# Altium footprint library DIP-IC  0607.PcbLib: 26 footprints (part 1 of 2)
Each footprint in its own frame and in the unit in brackets; x right, y up, seen from the top. Pads: shape width x height; smd on the part's side, far side on the other; paste and mask are expansions set on the pad; w line width, h text height; cw(c..) or ccw(c..) is an arc to the next point about the centre after c.
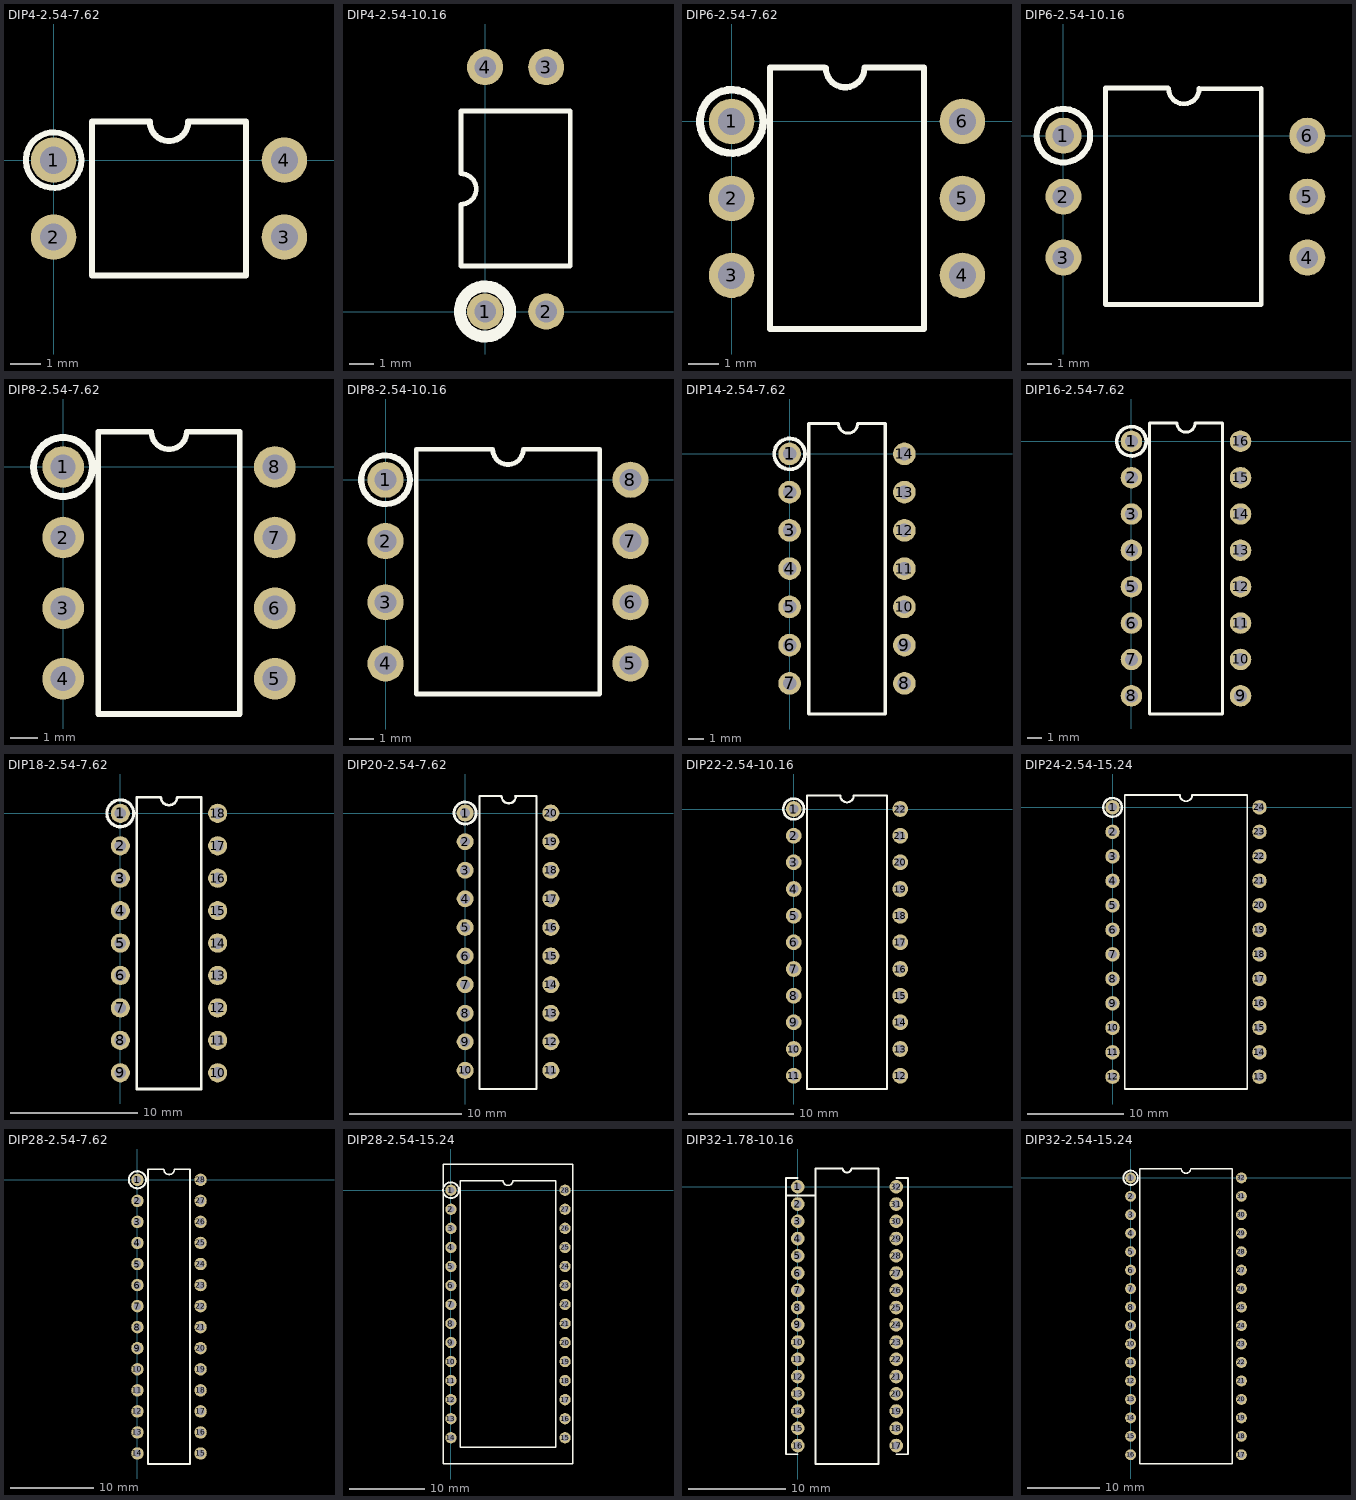
[diagram p0: the footprints below, top view; thin cyan lines are the x and y axes]

## DIP4-2.54-7.62 [mm]
pads (4):
  round 1.5 hole 0.9: 1(0,0) 2(0,-2.54) 3(7.62,-2.54) 4(7.62,0)
TopOverlay:
  circle w0.2: c0,0 r0.916
  lines w0.2: 1.27,-3.81 6.35,-3.81 6.35,1.27 4.445,1.27 cw(c3.81,1.27) 3.175,1.27 1.27,1.27 1.27,-3.81
BottomOverlay:
  lines w0.99: -1.143,-1.27 1.143,-1.27 ; 6.477,-1.27 8.763,-1.27

## DIP4-2.54-10.16 [mm]
pads (4):
  round 1.5 hole 0.9: 1(0,0) 2(2.54,0) 3(2.54,10.16) 4(0,10.16)
TopOverlay:
  circle w0.5: c0,0 r1.041
  lines w0.2: -1,1.896 3.54,1.896 3.54,8.341 -1,8.341 -1,5.729 cw(c-1,5.094) -1,4.459 -1,1.896
BottomOverlay:
  lines w0.8: 1.27,-1.143 1.27,1.143 ; 1.27,9.042 1.27,11.328

## DIP6-2.54-7.62 [mm]
pads (6):
  round 1.5 hole 0.9: 1(0,0) 2(0,-2.54) 3(0,-5.08) 4(7.62,-5.08) 5(7.62,-2.54) 6(7.62,0)
TopOverlay:
  circle w0.254: c0,0 r1.046
  lines w0.2: 3.073,1.778 1.27,1.778 1.27,-6.858 6.35,-6.858 6.35,1.778 4.394,1.778 ; 3.115,1.762 ccw(c3.75,1.762) 4.385,1.762
BottomOverlay:
  lines w0.99: -1.143,-3.81 1.143,-3.81 ; -1.143,-1.27 1.143,-1.27 ; 6.477,-3.81 8.763,-3.81 ; 6.477,-1.27 8.763,-1.27

## DIP6-2.54-10.16 [mm]
pads (6):
  round 1.5 hole 0.9: 1(0,0) 2(0,-2.54) 3(0,-5.08) 4(10.16,-5.08) 5(10.16,-2.54) 6(10.16,0)
TopOverlay:
  circle w0.254: c0,0 r1.114
  lines w0.2: 4.369,1.981 1.753,1.981 1.746,-7.04 8.238,-7.04 8.238,1.96 5.639,1.956 ; 4.382,1.96 ccw(c5.017,1.96) 5.652,1.96
BottomOverlay:
  lines w0.8: -1.143,-3.81 1.143,-3.81 ; -1.143,-1.27 1.143,-1.27 ; 9.017,-1.27 11.303,-1.27 ; 9.068,-3.835 11.354,-3.835

## DIP8-2.54-7.62 [mm]
pads (8):
  round 1.5 hole 0.9: 1(0,0) 2(0,-2.54) 3(0,-5.08) 4(0,-7.62) 5(7.62,-7.62) 6(7.62,-5.08) 7(7.62,-2.54) 8(7.62,0)
TopOverlay:
  circle w0.254: c0,0 r1.06
  lines w0.2: 1.27,-8.89 1.27,1.27 3.175,1.27 ccw(c3.81,1.27) 4.445,1.27 6.35,1.27 6.35,-8.89 1.27,-8.89
BottomOverlay:
  lines w0.99: -1.143,-6.35 1.143,-6.35 ; -1.143,-3.81 1.143,-3.81 ; -1.143,-1.27 1.143,-1.27 ; 6.477,-6.35 8.763,-6.35 ; 6.477,-3.81 8.763,-3.81 ; 6.477,-1.27 8.763,-1.27

## DIP8-2.54-10.16 [mm]
height 4.75
pads (8):
  round 1.5 hole 0.9: 1(0,0) 2(0,-2.54) 3(0,-5.08) 4(0,-7.62) 5(10.16,-7.62) 6(10.16,-5.08) 7(10.16,-2.54) 8(10.16,0)
TopOverlay:
  circle w0.254: c0,0 r1.012
  lines w0.2: 1.27,-8.89 1.27,1.27 4.445,1.27 ccw(c5.08,1.27) 5.715,1.27 8.89,1.27 8.89,-8.89 1.27,-8.89
BottomOverlay:
  lines w0.99: -1.143,-6.35 1.143,-6.35 ; -1.143,-3.81 1.143,-3.81 ; -1.143,-1.27 1.143,-1.27 ; 9.017,-6.35 11.303,-6.35 ; 9.017,-3.81 11.303,-3.81 ; 9.017,-1.27 11.303,-1.27

## DIP14-2.54-7.62 [mm]
pads (14):
  round 1.5 hole 0.9: 1(0,0) 2(0,-2.54) 3(0,-5.08) 4(0,-7.62) 5(0,-10.16) 6(0,-12.7) 7(0,-15.24) 8(7.62,-15.24) 9(7.62,-12.7) 10(7.62,-10.16) 11(7.62,-7.62) 12(7.62,-5.08) 13(7.62,-2.54) 14(7.62,0)
TopOverlay:
  circle w0.254: c0,0 r1.022
  lines w0.2: 3.175,2.032 1.27,2.032 1.27,-17.272 6.35,-17.272 6.35,2.032 4.572,2.032 ; 3.242,2.016 ccw(c3.877,2.016) 4.512,2.016
BottomOverlay:
  lines w0.99: -1.143,-13.97 1.143,-13.97 ; -1.143,-11.43 1.143,-11.43 ; -1.143,-8.89 1.143,-8.89 ; -1.143,-6.35 1.143,-6.35 ; -1.143,-3.81 1.143,-3.81 ; -1.143,-1.27 1.143,-1.27 ; 6.477,-13.97 8.763,-13.97 ; 6.477,-11.43 8.763,-11.43 ; 6.477,-8.89 8.763,-8.89 ; 6.477,-6.35 8.763,-6.35 ; 6.477,-3.81 8.763,-3.81 ; 6.477,-1.27 8.763,-1.27

## DIP16-2.54-7.62 [mm]
pads (16):
  round 1.5 hole 0.9: 1(0,0) 2(0,-2.54) 3(0,-5.08) 4(0,-7.62) 5(0,-10.16) 6(0,-12.7) 7(0,-15.24) 8(0,-17.78) 9(7.62,-17.78) 10(7.62,-15.24) 11(7.62,-12.7) 12(7.62,-10.16) 13(7.62,-7.62) 14(7.62,-5.08) 15(7.62,-2.54) 16(7.62,0)
TopOverlay:
  circle w0.254: c0,0 r1.028
  lines w0.2: 1.27,-19.05 6.35,-19.05 6.35,1.27 4.445,1.27 cw(c3.81,1.27) 3.175,1.27 1.27,1.27 1.27,-19.05
BottomOverlay:
  lines w0.99: -1.143,-16.51 1.143,-16.51 ; -1.143,-13.97 1.143,-13.97 ; -1.143,-11.43 1.143,-11.43 ; -1.143,-8.89 1.143,-8.89 ; -1.143,-6.35 1.143,-6.35 ; -1.143,-3.81 1.143,-3.81 ; -1.143,-1.27 1.143,-1.27 ; 6.477,-16.51 8.763,-16.51 ; 6.477,-13.97 8.763,-13.97 ; 6.477,-11.43 8.763,-11.43 ; 6.477,-8.89 8.763,-8.89 ; 6.477,-6.35 8.763,-6.35 ; 6.477,-3.81 8.763,-3.81 ; 6.477,-1.27 8.763,-1.27

## DIP18-2.54-7.62 [mm]
pads (18):
  round 1.5 hole 0.9: 1(0,0) 2(0,-2.54) 3(0,-5.08) 4(0,-7.62) 5(0,-10.16) 6(0,-12.7) 7(0,-15.24) 8(0,-17.78) 9(0,-20.32) 10(7.62,-20.32) 11(7.62,-17.78) 12(7.62,-15.24) 13(7.62,-12.7) 14(7.62,-10.16) 15(7.62,-7.62) 16(7.62,-5.08) 17(7.62,-2.54) 18(7.62,0)
TopOverlay:
  circle w0.254: c0,0 r1.052
  lines w0.2: 1.27,-21.59 6.35,-21.59 6.35,1.27 4.445,1.27 cw(c3.81,1.27) 3.175,1.27 1.27,1.27 1.27,-21.59
BottomOverlay:
  lines w0.99: -1.143,-19.05 1.143,-19.05 ; -1.143,-16.51 1.143,-16.51 ; -1.143,-13.97 1.143,-13.97 ; -1.143,-11.43 1.143,-11.43 ; -1.143,-8.89 1.143,-8.89 ; -1.143,-6.35 1.143,-6.35 ; -1.143,-3.81 1.143,-3.81 ; -1.143,-1.27 1.143,-1.27 ; 6.477,-19.05 8.763,-19.05 ; 6.477,-16.51 8.763,-16.51 ; 6.477,-13.97 8.763,-13.97 ; 6.477,-11.43 8.763,-11.43 ; 6.477,-8.89 8.763,-8.89 ; 6.477,-6.35 8.763,-6.35 ; 6.477,-3.81 8.763,-3.81 ; 6.477,-1.27 8.763,-1.27

## DIP20-2.54-7.62 [mm]
pads (20):
  round 1.5 hole 0.9: 1(0,0) 2(0,-2.54) 3(0,-5.08) 4(0,-7.62) 5(0,-10.16) 6(0,-12.7) 7(0,-15.24) 8(0,-17.78) 9(0,-20.32) 10(0,-22.86) 11(7.62,-22.86) 12(7.62,-20.32) 13(7.62,-17.78) 14(7.62,-15.24) 15(7.62,-12.7) 16(7.62,-10.16) 17(7.62,-7.62) 18(7.62,-5.08) 19(7.62,-2.54) 20(7.62,0)
TopOverlay:
  circle w0.254: c0,0 r0.98
  lines w0.2: 3.175,1.524 1.27,1.524 1.27,-24.511 6.35,-24.511 6.35,1.524 4.445,1.524 ; 3.242,1.5 ccw(c3.877,1.5) 4.512,1.5
BottomOverlay:
  lines w0.99: -1.143,-21.59 1.143,-21.59 ; -1.143,-19.05 1.143,-19.05 ; -1.143,-16.51 1.143,-16.51 ; -1.143,-13.97 1.143,-13.97 ; -1.143,-11.43 1.143,-11.43 ; -1.143,-8.89 1.143,-8.89 ; -1.143,-6.35 1.143,-6.35 ; -1.143,-3.81 1.143,-3.81 ; -1.143,-1.27 1.143,-1.27 ; 6.477,-21.59 8.763,-21.59 ; 6.477,-19.05 8.763,-19.05 ; 6.477,-16.51 8.763,-16.51 ; 6.477,-13.97 8.763,-13.97 ; 6.477,-11.43 8.763,-11.43 ; 6.477,-8.89 8.763,-8.89 ; 6.477,-6.35 8.763,-6.35 ; 6.477,-3.81 8.763,-3.81 ; 6.477,-1.27 8.763,-1.27

## DIP22-2.54-10.16 [mm]
pads (22):
  round 1.5 hole 0.9: 1(0,0) 2(0,-2.54) 3(0,-5.08) 4(0,-7.62) 5(0,-10.16) 6(0,-12.7) 7(0,-15.24) 8(0,-17.78) 9(0,-20.32) 10(0,-22.86) 11(0,-25.4) 12(10.16,-25.4) 13(10.16,-22.86) 14(10.16,-20.32) 15(10.16,-17.78) 16(10.16,-15.24) 17(10.16,-12.7) 18(10.16,-10.16) 19(10.16,-7.62) 20(10.16,-5.08) 21(10.16,-2.54) 22(10.16,0)
TopOverlay:
  circle w0.254: c0,0 r0.989
  lines w0.2: 1.27,-26.67 8.89,-26.67 8.89,1.27 5.715,1.27 cw(c5.08,1.27) 4.445,1.27 1.27,1.27 1.27,-26.67
BottomOverlay:
  lines w0.99: -1.143,-24.13 1.143,-24.13 ; -1.143,-21.59 1.143,-21.59 ; -1.143,-19.05 1.143,-19.05 ; -1.143,-16.51 1.143,-16.51 ; -1.143,-13.97 1.143,-13.97 ; -1.143,-11.43 1.143,-11.43 ; -1.143,-8.89 1.143,-8.89 ; -1.143,-6.35 1.143,-6.35 ; -1.143,-3.81 1.143,-3.81 ; -1.143,-1.27 1.143,-1.27 ; 9.017,-24.13 11.303,-24.13 ; 9.017,-21.59 11.303,-21.59 ; 9.017,-19.05 11.303,-19.05 ; 9.017,-16.51 11.303,-16.51 ; 9.017,-13.97 11.303,-13.97 ; 9.017,-11.43 11.303,-11.43 ; 9.017,-8.89 11.303,-8.89 ; 9.017,-6.35 11.303,-6.35 ; 9.017,-3.81 11.303,-3.81 ; 9.017,-1.27 11.303,-1.27

## DIP24-2.54-15.24 [mm]
pads (24):
  round 1.5 hole 0.9: 1(0,0) 2(0,-2.54) 3(0,-5.08) 4(0,-7.62) 5(0,-10.16) 6(0,-12.7) 7(0,-15.24) 8(0,-17.78) 9(0,-20.32) 10(0,-22.86) 11(0,-25.4) 12(0,-27.94) 13(15.24,-27.94) 14(15.24,-25.4) 15(15.24,-22.86) 16(15.24,-20.32) 17(15.24,-17.78) 18(15.24,-15.24) 19(15.24,-12.7) 20(15.24,-10.16) 21(15.24,-7.62) 22(15.24,-5.08) 23(15.24,-2.54) 24(15.24,0)
TopOverlay:
  circle w0.254: c0,0 r0.971
  lines w0.2: 1.27,-29.21 1.27,1.27 6.985,1.27 ccw(c7.62,1.27) 8.255,1.27 13.97,1.27 13.97,-29.21 1.27,-29.21
BottomOverlay:
  lines w0.99: -1.143,-26.67 1.143,-26.67 ; -1.143,-24.13 1.143,-24.13 ; -1.143,-21.59 1.143,-21.59 ; -1.143,-19.05 1.143,-19.05 ; -1.143,-16.51 1.143,-16.51 ; -1.143,-13.97 1.143,-13.97 ; -1.143,-11.43 1.143,-11.43 ; -1.143,-8.89 1.143,-8.89 ; -1.143,-6.35 1.143,-6.35 ; -1.143,-3.81 1.143,-3.81 ; -1.143,-1.27 1.143,-1.27 ; 14.097,-26.67 16.383,-26.67 ; 14.097,-24.13 16.383,-24.13 ; 14.097,-21.59 16.383,-21.59 ; 14.097,-19.05 16.383,-19.05 ; 14.097,-16.51 16.383,-16.51 ; 14.097,-13.97 16.383,-13.97 ; 14.097,-11.43 16.383,-11.43 ; 14.097,-8.89 16.383,-8.89 ; 14.097,-6.35 16.383,-6.35 ; 14.097,-3.81 16.383,-3.81 ; 14.097,-1.27 16.383,-1.27

## DIP28-2.54-7.62 [mm]
pads (28):
  round 1.5 hole 0.9: 1(0,0) 2(0,-2.54) 3(0,-5.08) 4(0,-7.62) 5(0,-10.16) 6(0,-12.7) 7(0,-15.24) 8(0,-17.78) 9(0,-20.32) 10(0,-22.86) 11(0,-25.4) 12(0,-27.94) 13(0,-30.48) 14(0,-33.02) 15(7.62,-33.02) 16(7.62,-30.48) 17(7.62,-27.94) 18(7.62,-25.4) 19(7.62,-22.86) 20(7.62,-20.32) 21(7.62,-17.78) 22(7.62,-15.24) 23(7.62,-12.7) 24(7.62,-10.16) 25(7.62,-7.62) 26(7.62,-5.08) 27(7.62,-2.54) 28(7.62,0)
TopOverlay:
  circle w0.254: c0,0 r1.031
  lines w0.2: 3.175,1.27 1.27,1.27 1.27,-34.29 6.35,-34.29 6.35,1.27 4.445,1.27 ; 3.191,1.27 ccw(c3.826,1.27) 4.461,1.27
BottomOverlay:
  lines w0.99: -1.143,-31.75 1.143,-31.75 ; -1.143,-29.21 1.143,-29.21 ; -1.143,-26.67 1.143,-26.67 ; -1.143,-24.13 1.143,-24.13 ; -1.143,-21.59 1.143,-21.59 ; -1.143,-19.05 1.143,-19.05 ; -1.143,-16.51 1.143,-16.51 ; -1.143,-13.97 1.143,-13.97 ; -1.143,-11.43 1.143,-11.43 ; -1.143,-8.89 1.143,-8.89 ; -1.143,-6.35 1.143,-6.35 ; -1.143,-3.81 1.143,-3.81 ; -1.143,-1.27 1.143,-1.27 ; 6.477,-31.75 8.763,-31.75 ; 6.477,-29.21 8.763,-29.21 ; 6.477,-26.67 8.763,-26.67 ; 6.477,-24.13 8.763,-24.13 ; 6.477,-21.59 8.763,-21.59 ; 6.477,-19.05 8.763,-19.05 ; 6.477,-16.51 8.763,-16.51 ; 6.477,-13.97 8.763,-13.97 ; 6.477,-11.43 8.763,-11.43 ; 6.477,-8.89 8.763,-8.89 ; 6.477,-6.35 8.763,-6.35 ; 6.477,-3.81 8.763,-3.81 ; 6.477,-1.27 8.763,-1.27

## DIP28-2.54-15.24 [mm]
pads (28):
  round 1.5 hole 0.9: 1(0,0) 2(0,-2.54) 3(0,-5.08) 4(0,-7.62) 5(0,-10.16) 6(0,-12.7) 7(0,-15.24) 8(0,-17.78) 9(0,-20.32) 10(0,-22.86) 11(0,-25.4) 12(0,-27.94) 13(0,-30.48) 14(0,-33.02) 15(15.24,-33.02) 16(15.24,-30.48) 17(15.24,-27.94) 18(15.24,-25.4) 19(15.24,-22.86) 20(15.24,-20.32) 21(15.24,-17.78) 22(15.24,-15.24) 23(15.24,-12.7) 24(15.24,-10.16) 25(15.24,-7.62) 26(15.24,-5.08) 27(15.24,-2.54) 28(15.24,0)
TopOverlay:
  circle w0.254: c0,0 r1.052
  lines w0.2: -1.01,-36.52 16.244,-36.52 16.244,3.494 ; -1,-36.51 -1,-34.27 -1.004,3.5 16.25,3.5 ; 1.27,-34.29 1.27,1.27 6.985,1.27 ccw(c7.62,1.27) 8.255,1.27 13.97,1.27 13.97,-34.29 1.27,-34.29
BottomOverlay:
  lines w0.99: -1.143,-31.75 1.143,-31.75 ; -1.143,-29.21 1.143,-29.21 ; -1.143,-26.67 1.143,-26.67 ; -1.143,-24.13 1.143,-24.13 ; -1.143,-21.59 1.143,-21.59 ; -1.143,-19.05 1.143,-19.05 ; -1.143,-16.51 1.143,-16.51 ; -1.143,-13.97 1.143,-13.97 ; -1.143,-11.43 1.143,-11.43 ; -1.143,-8.89 1.143,-8.89 ; -1.143,-6.35 1.143,-6.35 ; -1.143,-3.81 1.143,-3.81 ; -1.143,-1.27 1.143,-1.27 ; 14.097,-31.75 16.383,-31.75 ; 14.097,-29.21 16.383,-29.21 ; 14.097,-26.67 16.383,-26.67 ; 14.097,-24.13 16.383,-24.13 ; 14.097,-21.59 16.383,-21.59 ; 14.097,-19.05 16.383,-19.05 ; 14.097,-16.51 16.383,-16.51 ; 14.097,-13.97 16.383,-13.97 ; 14.097,-11.43 16.383,-11.43 ; 14.097,-8.89 16.383,-8.89 ; 14.097,-6.35 16.383,-6.35 ; 14.097,-3.81 16.383,-3.81 ; 14.097,-1.27 16.383,-1.27

## DIP32-1.78-10.16 [mm]
pads (32):
  round 1.4 hole 0.8: 1(0,0) 2(0,-1.78) 3(0,-3.56) 4(0,-5.34) 5(0,-7.12) 6(0,-8.9) 7(0,-10.68) 8(0,-12.46) 9(0,-14.24) 10(0,-16.02) 11(0,-17.8) 12(0,-19.58) 13(0,-21.36) 14(0,-23.14) 15(0,-24.92) 16(0,-26.7) 17(10.16,-26.7) 18(10.16,-24.92) 19(10.16,-23.14) 20(10.16,-21.36) 21(10.16,-19.58) 22(10.16,-17.8) 23(10.16,-16.02) 24(10.16,-14.24) 25(10.16,-12.46) 26(10.16,-10.68) 27(10.16,-8.9) 28(10.16,-7.12) 29(10.16,-5.34) 30(10.16,-3.56) 31(10.16,-1.78) 32(10.16,0)
TopOverlay:
  lines w0.2: -1.22,-0.889 1.835,-0.889 ; 0,-27.6 -1.22,-27.6 -1.22,0.9 0,0.9 ; 10.16,-27.6 11.38,-27.6 11.38,0.9 10.16,0.9 ; 1.835,-28.606 1.835,1.906 4.635,1.906 ccw(c5.08,1.906) 5.525,1.906 8.325,1.906 8.325,-28.606 1.835,-28.606
BottomOverlay:
  lines w0.33: -1.041,-25.809 1.067,-25.809 ; -1.041,-24.029 1.067,-24.029 ; -1.041,-22.249 1.067,-22.249 ; -1.041,-20.469 1.067,-20.469 ; -1.041,-18.689 1.067,-18.689 ; -1.041,-16.909 1.067,-16.909 ; -1.041,-15.129 1.067,-15.129 ; -1.041,-13.349 1.067,-13.349 ; -1.041,-11.569 1.067,-11.569 ; -1.041,-9.789 1.067,-9.789 ; -1.041,-8.009 1.067,-8.009 ; -1.041,-6.229 1.067,-6.229 ; -1.041,-4.449 1.067,-4.449 ; -1.041,-2.669 1.067,-2.669 ; -1.041,-0.889 1.067,-0.889 ; 9.119,-25.809 11.227,-25.809 ; 9.119,-24.029 11.227,-24.029 ; 9.119,-22.249 11.227,-22.249 ; 9.119,-20.469 11.227,-20.469 ; 9.119,-18.689 11.227,-18.689 ; 9.119,-16.909 11.227,-16.909 ; 9.119,-15.129 11.227,-15.129 ; 9.119,-13.349 11.227,-13.349 ; 9.119,-11.569 11.227,-11.569 ; 9.119,-9.789 11.227,-9.789 ; 9.119,-8.009 11.227,-8.009 ; 9.119,-6.229 11.227,-6.229 ; 9.119,-4.449 11.227,-4.449 ; 9.119,-2.669 11.227,-2.669 ; 9.119,-0.889 11.227,-0.889

## DIP32-2.54-15.24 [mm]
pads (32):
  round 1.5 hole 0.9: 1(0,0) 2(0,-2.54) 3(0,-5.08) 4(0,-7.62) 5(0,-10.16) 6(0,-12.7) 7(0,-15.24) 8(0,-17.78) 9(0,-20.32) 10(0,-22.86) 11(0,-25.4) 12(0,-27.94) 13(0,-30.48) 14(0,-33.02) 15(0,-35.56) 16(0,-38.1) 17(15.24,-38.1) 18(15.24,-35.56) 19(15.24,-33.02) 20(15.24,-30.48) 21(15.24,-27.94) 22(15.24,-25.4) 23(15.24,-22.86) 24(15.24,-20.32) 25(15.24,-17.78) 26(15.24,-15.24) 27(15.24,-12.7) 28(15.24,-10.16) 29(15.24,-7.62) 30(15.24,-5.08) 31(15.24,-2.54) 32(15.24,0)
TopOverlay:
  circle w0.254: c0,0 r0.996
  lines w0.2: 1.27,-39.37 13.97,-39.37 13.97,1.27 8.255,1.27 cw(c7.62,1.27) 6.985,1.27 1.27,1.27 1.27,-39.37
BottomOverlay:
  lines w0.99: -1.143,-36.83 1.143,-36.83 ; -1.143,-34.29 1.143,-34.29 ; -1.143,-31.75 1.143,-31.75 ; -1.143,-29.21 1.143,-29.21 ; -1.143,-26.67 1.143,-26.67 ; -1.143,-24.13 1.143,-24.13 ; -1.143,-21.59 1.143,-21.59 ; -1.143,-19.05 1.143,-19.05 ; -1.143,-16.51 1.143,-16.51 ; -1.143,-13.97 1.143,-13.97 ; -1.143,-11.43 1.143,-11.43 ; -1.143,-8.89 1.143,-8.89 ; -1.143,-6.35 1.143,-6.35 ; -1.143,-3.81 1.143,-3.81 ; -1.143,-1.27 1.143,-1.27 ; 14.097,-36.83 16.383,-36.83 ; 14.097,-34.29 16.383,-34.29 ; 14.097,-31.75 16.383,-31.75 ; 14.097,-29.21 16.383,-29.21 ; 14.097,-26.67 16.383,-26.67 ; 14.097,-24.13 16.383,-24.13 ; 14.097,-21.59 16.383,-21.59 ; 14.097,-19.05 16.383,-19.05 ; 14.097,-16.51 16.383,-16.51 ; 14.097,-13.97 16.383,-13.97 ; 14.097,-11.43 16.383,-11.43 ; 14.097,-8.89 16.383,-8.89 ; 14.097,-6.35 16.383,-6.35 ; 14.097,-3.81 16.383,-3.81 ; 14.097,-1.27 16.383,-1.27